# EAGLE library part J1011F (library Heep)
PULSEJACK (TM) 1x1 Tab-UP RJ45 10/100 Base-TX RJ45 1x1 Tab-UP with LEDs 8-pin (J1 series) and 6-pin (JP series) integrated magnetics connector, designed to support applications, such as ADSL modems, LAN-on-Motherboard, and Hub and Switches. Source: www.pulseeng.com .. PulseJack-J402.pdf
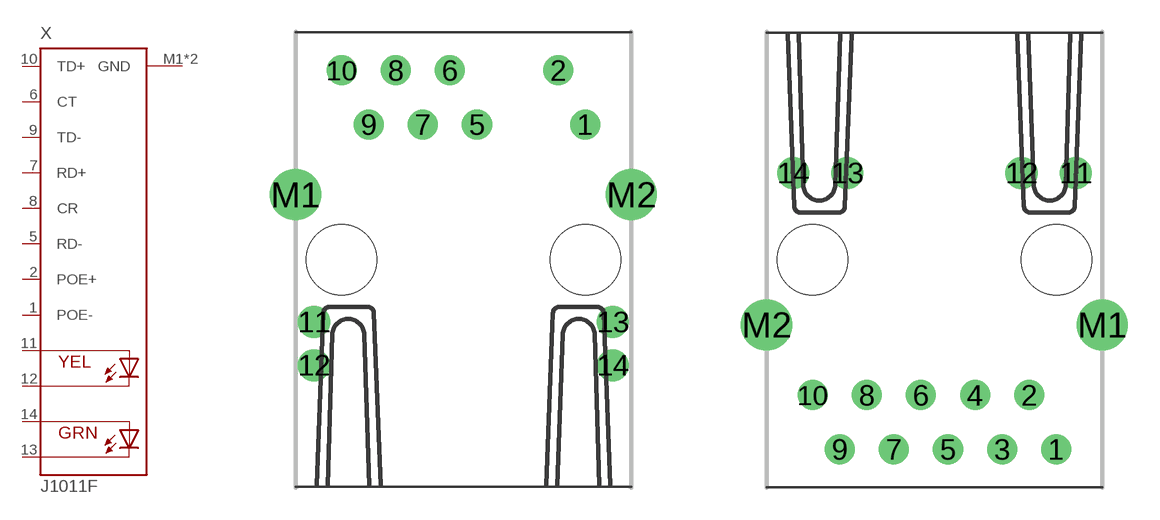
[diagram p1: symbol with the pads of J1; footprints J1, HANRUN_POE]

Designator prefix X

## J1011F01PJXD1-0009NL (OC_FARNELL: unknown; OC_NEWARK: unknown), J1011F21PJXD1-0009NL (OC_FARNELL: unknown; OC_NEWARK: unknown)  [J1]
1  POE-  in
2  POE+  in
5  RD-  in
6  CT  in
7  RD+  in
8  CR  in
9  TD-  in
10  TD+  in
11  YEL-A  pas
12  YEL-C  pas
13  GRN-C  pas
14  GRN-A  pas
M1  GND  pwr
M2  GND  pwr

## J1011FHY931147C  [HANRUN_POE]
1  RD+  in
2  RD-  in
3  CR  in
4  CT  in
5  TD+  in
6  TD-  in
9  POE+  in
10  POE-  in
11  YEL-A  pas
12  YEL-C  pas
13  GRN-A  pas
14  GRN-C  pas
M1  GND  pwr
M2  GND  pwr

## J1011FTOP_TAB  [HANRUN_HR971169C]
M1  CR  in
M2  GND  pwr
P1  TD+  in
P2  CT  in
P3  TD-  in
P4  RD+  in
P5  RD-  in
P9  POE-  in
P10  POE+  in
P11  YEL-C  pas
P12  YEL-A  pas
P13  GRN-C  pas
P14  GRN-A  pas

## Footprint J1 (pad centres in mm)
PULSEJACK (TM) 1x1 Tab-UP RJ45 10/100 Base-TX RJ45 1x1 Tab-UP with LEDs 8-pin (J1 series) and 6-pin (JP series) integrated magnetics connector, designed to support applications, such as ADSL modems, LAN-on-Motherboard, and Hub and Switches. Source: www.pulseeng.com .. PulseJack-J402.pdf
drill 0.9 pad 1.3: 1 5.715,0; 2 4.445,2.54; 5 0.635,0; 6 -0.635,2.54; 7 -1.905,0; 8 -3.175,2.54; 9 -4.445,0; 10 -5.715,2.54
drill 1 pad 1.422: 11 -7.01,-9.275; 12 -7.01,-11.307; 13 7.01,-9.275; 14 7.01,-11.307
drill 1.6 pad 2.184: M1 -7.875,-3.3; M2 7.875,-3.3
hole 3.3 at 5.715,-6.35
hole 3.3 at -5.715,-6.35

## Footprint HANRUN_POE (pad centres in mm)
drill 0.9 pad 1.3: 1 5.715,-8.89; 2 4.445,-6.35; 3 3.175,-8.89; 4 1.905,-6.35; 5 0.635,-8.89; 6 -0.635,-6.35; 7 -1.905,-8.89; 8 -3.175,-6.35; 9 -4.445,-8.89; 10 -5.715,-6.35
drill 1 pad 1.422: 11 6.625,4.08; 12 4.085,4.08; 13 -4.085,4.08; 14 -6.625,4.08
drill 1.6 pad 2.184: M1 7.875,-3.05; M2 -7.875,-3.05
hole 3.3 at -5.715,0
hole 3.3 at 5.715,0

## Footprint HANRUN_HR971169C (pad centres in mm)
drill 1.6 pad 2.184: M1 8,-3.05; M2 -8,-3.05
drill 0.9 pad 1.3: P1 -5.715,-6.35; P2 -4.445,-8.89; P3 -3.175,-6.35; P4 -1.905,-8.89; P5 -0.635,-6.35; P7 1.905,-6.35; P8 3.175,-8.89; P9 4.445,-6.35; P10 5.715,-8.89
drill 1 pad 1.422: P11 -5.465,-13.72; P12 -2.925,-13.72; P13 2.925,-13.72; P14 5.465,-13.72
hole 3.23 at -5.715,0
hole 3.23 at 5.715,0